# Altium footprint library pren-et_DC.PcbLib: 6 footprints
Each footprint in its own frame and in the unit in brackets; x right, y up, seen from the top. Pads: shape width x height; smd on the part's side, far side on the other; paste and mask are expansions set on the pad; w line width, h text height; cw(c..) or ccw(c..) is an arc to the next point about the centre after c.
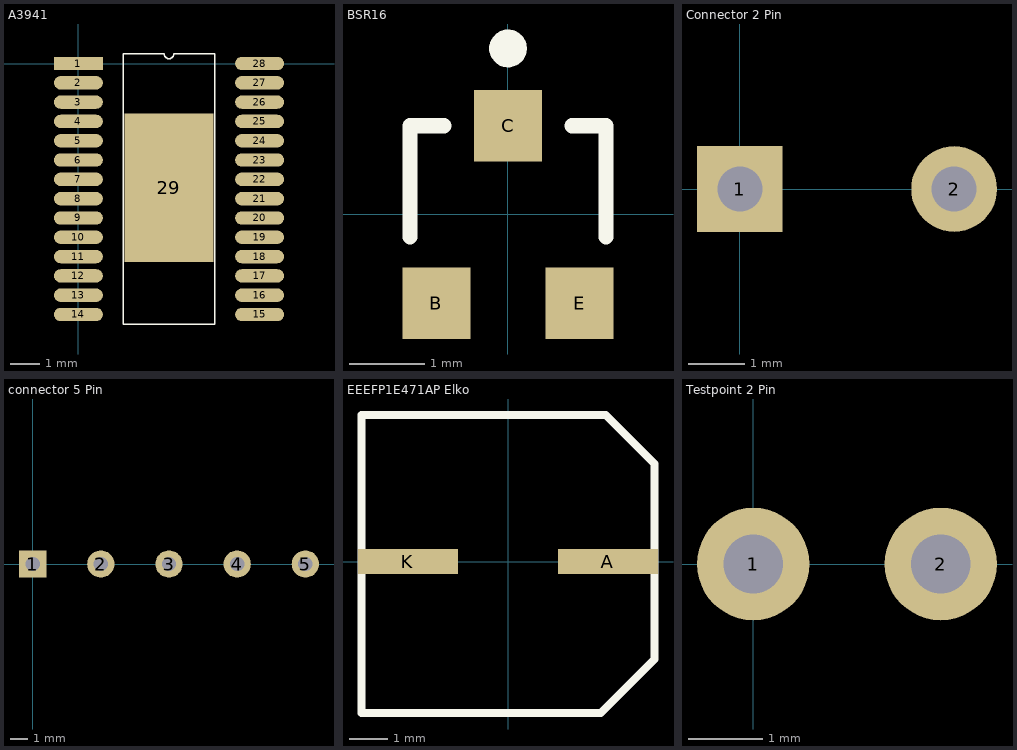
[diagram p0: the footprints below, top view; thin cyan lines are the x and y axes]

## A3941 [mm] "A3941 SOIC IC"
pads (29):
  rect 1.65x0.45 smd: 1(0,0)
  oval 1.65x0.45 smd: 2(0,-0.65) 3(0,-1.3) 4(0,-1.95) 5(0,-2.6) 6(0,-3.25) 7(0,-3.9) 8(0,-4.55) 9(0,-5.2) 10(0,-5.85) 11(0,-6.5) 12(0,-7.15) 13(0,-7.8) 14(0,-8.45) 15(6.1,-8.45) 16(6.1,-7.8) 17(6.1,-7.15) 18(6.1,-6.5) 19(6.1,-5.85) 20(6.1,-5.2) 21(6.1,-4.55) 22(6.1,-3.9) 23(6.1,-3.25) 24(6.1,-2.6) 25(6.1,-1.95) 26(6.1,-1.3) 27(6.1,-0.65) 28(6.1,0)
  rect 3x5 smd: 29(3.048,-4.191)
Top Overlay:
  lines w0.05: 1.51,-8.775 1.51,0.325 2.887,0.325 ccw(c3.05,0.325) 3.212,0.325 4.59,0.325 4.59,-8.775 1.51,-8.775

## BSR16 [mm] "BSR16 SOT23"
pads (3):
  rect 0.9x0.95 smd: B(-0.95,-1.175) C(0,1.175) E(0.95,-1.175)
Top Overlay:
  circle w0.25: c0,2.2 r0.125
  lines w0.2: -1.3,-0.3 -1.3,1.175 -0.85,1.175 ; 0.85,1.175 1.3,1.175 1.3,-0.3

## Connector 2 Pin [mil] "Connector 2 Pin"
pads (2):
  rect 60x60 hole 31.5: 1(0,0)
  round 60 hole 31.5: 2(150,0)

## connector 5 Pin [mil] "connector 5 Pin"
pads (5):
  rect 60x60 hole 31.5: 1(0,0)
  round 60 hole 31.5: 2(150,0) 3(300,0) 4(450,0) 5(600,0)

## EEEFP1E471AP Elko [mm] "Elko 470uF"
pads (2):
  rect 2.6x0.65 smd: A(2.6,0) K(-2.6,0)
Top Overlay:
  lines w0.2: -3.81,-3.937 -3.81,2.265 -3.81,3.81 2.54,3.81 3.81,2.54 3.81,-2.54 2.413,-3.937 -3.81,-3.937

## Testpoint 2 Pin [mil] "Testpoint 2 Pin"
pads (2):
  round 60 hole 31.5: 1(0,0) 2(100,0)